# Altium schematic symbol library SCH - POWER - LINEAR VREG - TI LM3480-3P3DBZ.SchLib: 1 symbol
Pins are listed as number, name and electrical type; pins without a type are passive.

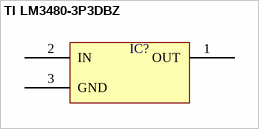
[diagram p0: symbol TI LM3480-3P3DBZ]

## TI LM3480-3P3DBZ
designator IC?  (value not drawn)
pins: 1 OUT, 2 IN, 3 GND